# Altium footprint library MC.PcbLib: 32 footprints (part 2 of 2)
Each footprint in its own frame and in the unit in brackets; x right, y up, seen from the top. Pads: shape width x height; smd on the part's side, far side on the other; paste and mask are expansions set on the pad; w line width, h text height; cw(c..) or ccw(c..) is an arc to the next point about the centre after c.
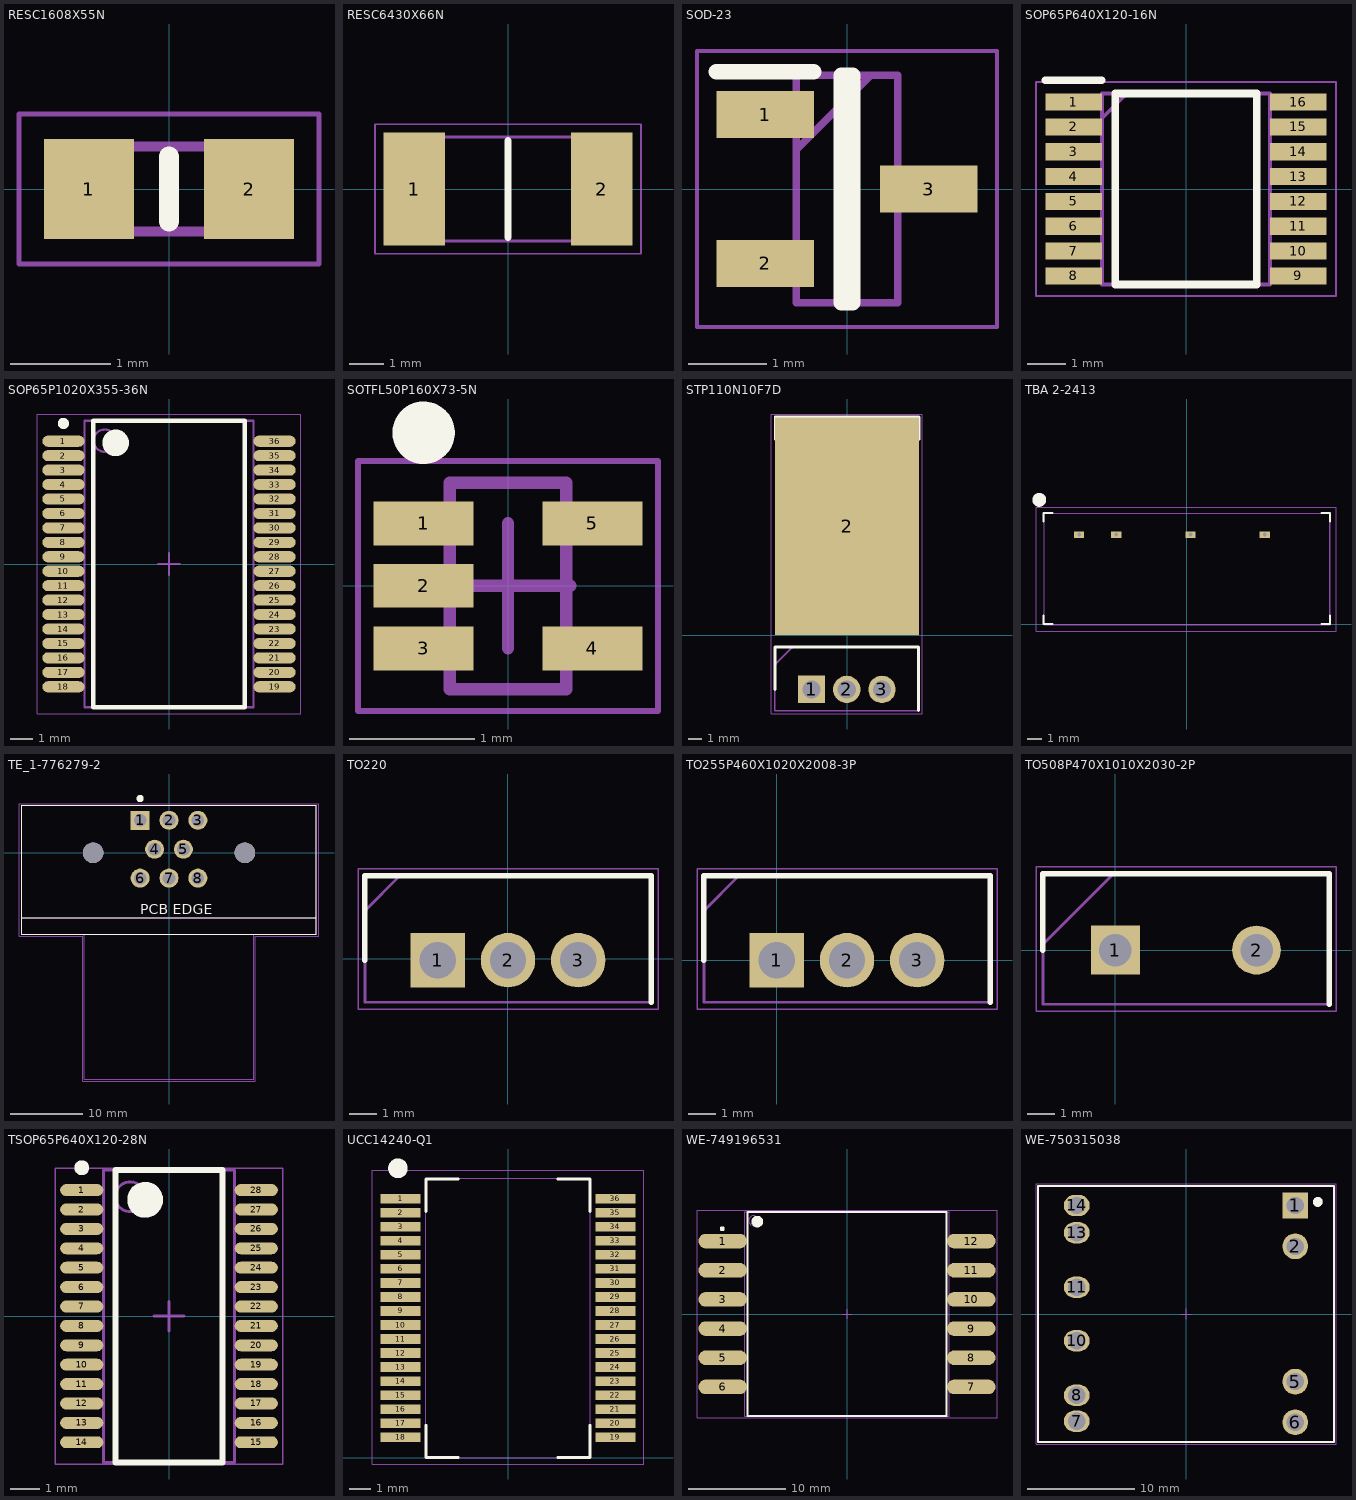
[diagram p1: the footprints below, top view; thin cyan lines are the x and y axes]

## RESC1608X55N [mm]
pads (2):
  rect 0.9x1 smd: 1(-0.8,0) 2(0.8,0)
Top Overlay:
  lines w0.2: 0,-0.325 0,0.325
Mechanical 13:
  lines w0.1: -0.8,-0.425 -0.8,0.425 0.8,0.425 0.8,-0.425 -0.8,-0.425
Mechanical 15:
  lines w0.05: -1.5,-0.75 -1.5,0.75 1.5,0.75 1.5,-0.75 -1.5,-0.75
3D body "ERJ-3GEYJ103V.stp": height 0.55, standoff 0, extent -0.8,-0.425 0.8,0.425

## RESC6430X66N [mm]
pads (2):
  rect 1.8x3.3 smd: 1(-2.75,0) 2(2.75,0)
Top Overlay:
  lines w0.2: 0,-1.425 0,1.425
Mechanical 13:
  lines w0.1: -3.175,-1.525 -3.175,1.525 3.175,1.525 3.175,-1.525 -3.175,-1.525
Mechanical 15:
  lines w0.05: -3.9,-1.9 -3.9,1.9 3.9,1.9 3.9,-1.9 -3.9,-1.9
3D body "PCS2512FR0050ET.stp": height 0.66, standoff 0, extent -3.175,-1.525 3.175,1.525

## SOD-23 [mm]
pads (3):
  rect 1.25x0.6 smd: 1(-1.05,0.955) 2(-1.05,-0.955) 3(1.05,0)
Top Overlay:
  lines w0.2: -1.675,1.505 -0.425,1.505 ; -0.075,-1.46 0.075,-1.46 0.075,1.46 -0.075,1.46 -0.075,-1.46
Mechanical 13:
  lines w0.1: -0.65,0.505 0.305,1.46 ; -0.65,-1.46 0.65,-1.46 0.65,1.46 -0.65,1.46 -0.65,-1.46
Mechanical 15:
  lines w0.05: -1.925,-1.77 1.925,-1.77 1.925,1.77 -1.925,1.77 -1.925,-1.77
3D body "MMBZ5242BLT3G.stp": height 1.11, standoff 0, extent -1.185,-1.46 1.185,1.46

## SOP65P640X120-16N [mm]
pads (16):
  rect 1.475x0.45 smd mask+0.07: 1(-2.938,2.275) 2(-2.938,1.625) 3(-2.938,0.975) 4(-2.938,0.325) 5(-2.938,-0.325) 6(-2.938,-0.975) 7(-2.938,-1.625) 8(-2.938,-2.275) 9(2.938,-2.275) 10(2.938,-1.625) 11(2.938,-0.975) 12(2.938,-0.325) 13(2.938,0.325) 14(2.938,0.975) 15(2.938,1.625) 16(2.938,2.275)
Top Overlay:
  lines w0.2: -3.675,2.85 -2.2,2.85 ; -1.85,-2.5 1.85,-2.5 1.85,2.5 -1.85,2.5 -1.85,-2.5
Mechanical 13:
  lines w0.1: -2.2,1.85 -1.55,2.5 ; -2.2,-2.5 2.2,-2.5 2.2,2.5 -2.2,2.5 -2.2,-2.5
Mechanical 15:
  lines w0.05: -3.925,-2.8 3.925,-2.8 3.925,2.8 -3.925,2.8 -3.925,-2.8
3D body "TMUX1208PWR.stp": height 1.2, standoff 0, extent -3.2,-2.5 3.2,2.5

## SOP65P1020X355-36N [mm] "SOP, 36-Leads, Body 12.83x7.50mm, Pitch 0.65mm, IPC Medium Density"
height 3.55
pads (36):
  oval 1.9x0.5 smd: 1(-4.75,5.525) 2(-4.75,4.875) 3(-4.75,4.225) 4(-4.75,3.575) 5(-4.75,2.925) 6(-4.75,2.275) 7(-4.75,1.625) 8(-4.75,0.975) 9(-4.75,0.325) 10(-4.75,-0.325) 11(-4.75,-0.975) 12(-4.75,-1.625) 13(-4.75,-2.275) 14(-4.75,-2.925) 15(-4.75,-3.575) 16(-4.75,-4.225) 17(-4.75,-4.875) 18(-4.75,-5.525) 19(4.75,-5.525) 20(4.75,-4.875) 21(4.75,-4.225) 22(4.75,-3.575) 23(4.75,-2.925) 24(4.75,-2.275) 25(4.75,-1.625) 26(4.75,-0.975) 27(4.75,-0.325) 28(4.75,0.325) 29(4.75,0.975) 30(4.75,1.625) 31(4.75,2.275) 32(4.75,2.925) 33(4.75,3.575) 34(4.75,4.225) 35(4.75,4.875) 36(4.75,5.525)
Top Overlay:
  circle w0.6: c-2.4,5.45 r0.3
  circle w0.25: c-4.75,6.325 r0.125
  lines w0.2: -3.4,-6.45 3.4,-6.45 3.4,6.45 -3.4,6.45 -3.4,-6.45
Mechanical 13:
  circle w0.1: c-2.9,5.55 r0.5
  lines w0.1: -3.8,-6.45 3.8,-6.45 3.8,6.45 -3.8,6.45 -3.8,-6.45
Mechanical 15:
  lines w0.05: -5.925,-6.75 5.925,-6.75 5.925,6.75 -5.925,6.75 -5.925,-6.75
  lines w0.1: -0.5,0 0.5,0 ; 0,-0.5 0,0.5
3D body "SOP65P1020X355-36N.step": height 3.55, standoff 0, extent -5.075,-6.45 5.075,6.45

## SOTFL50P160X73-5N [mm] "SOTFL, 5-Leads, Body 1.60x1.60mm, Pitch 0.50mm, IPC Medium Density"
height 0.73
pads (5):
  rect 0.8x0.35 smd: 1(-0.675,0.5) 2(-0.675,0) 3(-0.675,-0.5) 4(0.675,-0.5) 5(0.675,0.5)
Top Overlay:
  circle w0.25: c-0.675,1.225 r0.125
Mechanical 13:
  lines w0.1: -0.465,-0.825 -0.465,0.825 0.465,0.825 0.465,-0.825 -0.465,-0.825
Mechanical 15:
  lines w0.05: -1.2,-1 -1.2,1 1.2,1 1.2,-1 -1.2,-1
  lines w0.1: -0.5,0 0.5,0 ; 0,-0.5 0,0.5
3D body: height 0.73, standoff 0, extent -0.465,-0.825 0.465,0.825

## STP110N10F7D [mm] "90 deg mosfet"
pads (4):
  rect 1.98x1.98 hole 1.32: 1(-2.568,-3.93)
  round 1.98 hole 1.32: 2(-0.018,-3.93) 3(2.532,-3.93)
  rect 10.4x15.75 smd: 2(0,7.875)
Top Overlay:
  lines w0.2: -5.218,-3.93 -5.218,-0.86 5.182,-0.86 5.182,-5.46 ; -5.2,14.2 -5.2,15.8 5.2,15.8 ; 5.206,14.17 5.206,15.77
Mechanical 13:
  lines w0.1: -5.218,-2.135 -3.943,-0.86 ; -5.218,-5.46 5.182,-5.46 5.182,-0.86 -5.218,-0.86 -5.218,-5.46
Mechanical 15:
  lines w0.05: -5.468,-5.71 -5.468,16 5.432,16 5.432,-5.71 -5.468,-5.71
3D body "STP110N10F7.stp": height 19.22, standoff -18.2, extent -5.118,-5.46 5.082,-0.86

## TBA 2-2413 [mm] "DC DC CONVERTER 15V 2W"
pads (4):
  rect 0.7x0.45 hole 0.25 square: 1(-7.375,6.125) 2(-4.835,6.125) 4(0.246,6.125) 6(5.325,6.125)
Top Overlay:
  circle w0.5: c-10.1,8.5 r0.224
  lines w0.127: -9.8,0.6 -9.8,0 -9.2,0 ; -9.8,7 -9.8,7.6 -9.2,7.6 ; 9.2,0 9.8,0 9.8,0.6 ; 9.2,7.6 9.8,7.6 9.8,7
Mechanical 1:
  lines w0.051: -9.775,0 9.775,0 9.775,7.6 -9.775,7.6 -9.775,0 ; -9.755,-0.031 9.795,-0.031 9.795,7.569 -9.755,7.569 -9.755,-0.031
Mechanical 15:
  lines w0.051: -10.3,-0.5 -10.3,8 -10,8 10.2,8 10.2,-0.5 -10.3,-0.5
3D body "TBA 2-2413.STEP": height 10.24, standoff -3.01, extent -9.75,0 9.75,7.6

## TE_1-776279-2 [mm]
pads (10):
  rect 2.625x2.625 hole 1.75: 1(-4,4.5)
  round 2.625 hole 1.75: 2(0,4.5) 3(4,4.5) 4(-2,0.5) 5(2,0.5) 6(-4,-3.5) 7(0,-3.5) 8(4,-3.5)
  round 2.85 hole 2.85 unplated: ""(-10.5,0) ""(10.5,0)
Top Overlay:
  circle w0.5: c-4,7.5 r0.25
  lines w0.127: -20.4,-9 20.4,-9 ; -20.4,-9 -20.4,6.55 20.4,6.55 20.4,-9 ; -20.4,-9 -20.4,-11.3 11.7,-11.3 20.4,-11.3 20.4,-9
  text "PCB EDGE" at -4.006,-8.512 h1.42
Mechanical 13:
  lines w0.127: -20.4,-9 20.4,-9 ; -20.4,-9 -20.4,6.55 20.4,6.55 20.4,-9 ; -20.4,-9 -20.4,-11.3 -11.7,-11.3 ; -11.7,-11.3 -11.7,-31.35 11.7,-31.35 11.7,-11.3 ; -11.7,-11.3 11.7,-11.3 ; 11.7,-11.3 20.4,-11.3 20.4,-9
  text "PCB EDGE" at -4.006,-8.513 h1.42
Mechanical 15:
  lines w0.05: -20.75,-11.55 -11.95,-11.55 -11.95,-31.6 11.95,-31.6 11.95,-11.55 20.75,-11.55 20.75,6.8 -20.75,6.8 -20.75,-11.55
3D body "1-776279-2--3DModel-STEP-1.STEP": height 28.05, standoff -4.05, extent -20.4,-31.196 20.4,6.604

## TO220 [mm] "N Channel MOSFET"
pads (3):
  rect 1.98x1.98 hole 1.32: 1(-2.548,-0.051)
  round 1.98 hole 1.32: 2(0.002,-0.051) 3(2.552,-0.051)
Top Overlay:
  lines w0.2: -5.198,-0.051 -5.198,3.019 5.202,3.019 5.202,-1.581
Mechanical 13:
  lines w0.1: -5.198,1.744 -3.923,3.019 ; -5.198,-1.581 -5.198,3.019 5.202,3.019 5.202,-1.581 -5.198,-1.581
Mechanical 15:
  lines w0.05: -5.448,-1.831 -5.448,3.269 5.452,3.269 5.452,-1.831 -5.448,-1.831
3D body "STP110N10F7.stp": height 19.22, standoff -18.2, extent -5.098,-1.581 5.102,3.019

## TO255P460X1020X2008-3P [mm]
pads (3):
  rect 1.98x1.98 hole 1.32: 1(0,0)
  round 1.98 hole 1.32: 2(2.55,0) 3(5.1,0)
Top Overlay:
  lines w0.2: -2.65,0 -2.65,3.07 7.75,3.07 7.75,-1.53
Mechanical 13:
  lines w0.1: -2.65,1.795 -1.375,3.07 ; -2.65,-1.53 7.75,-1.53 7.75,3.07 -2.65,3.07 -2.65,-1.53
Mechanical 15:
  lines w0.05: -2.9,-1.78 8,-1.78 8,3.32 -2.9,3.32 -2.9,-1.78
3D body "STP110N10F7.stp": height 19.21, standoff -18.2, extent -2.55,-1.53 7.65,3.07

## TO508P470X1010X2030-2P [mm]
pads (2):
  rect 1.755x1.755 hole 1.17: 1(0,0)
  round 1.755 hole 1.17: 2(5.08,0)
Top Overlay:
  lines w0.2: -2.61,0 -2.61,2.75 7.69,2.75 7.69,-1.95
Mechanical 13:
  lines w0.1: -2.61,0.21 -0.07,2.75 ; -2.61,-1.95 -2.61,2.75 7.69,2.75 7.69,-1.95 -2.61,-1.95
Mechanical 15:
  lines w0.05: -2.86,-2.2 -2.86,3 7.94,3 7.94,-2.2 -2.86,-2.2
3D body "PF2203-0R2F1.stp": height 19, standoff -18, extent -2.51,-1.95 7.59,2.75

## TSOP65P640X120-28N [mm] "TSOP, 28-Leads, Body 9.70x4.40mm, Pitch 0.65mm, IPC Medium Density"
height 1.2
pads (28):
  oval 1.45x0.4 smd: 1(-2.925,4.225) 2(-2.925,3.575) 3(-2.925,2.925) 4(-2.925,2.275) 5(-2.925,1.625) 6(-2.925,0.975) 7(-2.925,0.325) 8(-2.925,-0.325) 9(-2.925,-0.975) 10(-2.925,-1.625) 11(-2.925,-2.275) 12(-2.925,-2.925) 13(-2.925,-3.575) 14(-2.925,-4.225) 15(2.925,-4.225) 16(2.925,-3.575) 17(2.925,-2.925) 18(2.925,-2.275) 19(2.925,-1.625) 20(2.925,-0.975) 21(2.925,-0.325) 22(2.925,0.325) 23(2.925,0.975) 24(2.925,1.625) 25(2.925,2.275) 26(2.925,2.925) 27(2.925,3.575) 28(2.925,4.225)
Top Overlay:
  circle w0.25: c-2.925,4.975 r0.125
  circle w0.6: c-0.8,3.9 r0.3
  lines w0.2: -1.8,-4.9 -1.8,4.9 1.8,4.9 1.8,-4.9 -1.8,-4.9
Mechanical 13:
  circle w0.1: c-1.3,4 r0.5
  lines w0.1: -2.2,-4.9 -2.2,4.9 2.2,4.9 2.2,-4.9 -2.2,-4.9
Mechanical 15:
  lines w0.05: -3.81,-4.953 -3.81,4.953 3.81,4.953 3.81,-4.953 -3.81,-4.953
  lines w0.1: -0.5,0 0.5,0 ; 0,-0.5 0,0.5
3D body: height 1.2, standoff 0.1, extent -2.2,-4.9 2.2,4.9

## UCC14240-Q1 [mm] "Isolated DC/DC Module"
pads (36):
  rect 1.85x0.45 smd: 1(-4.975,11.99) 2(-4.975,11.34) 3(-4.975,10.69) 4(-4.975,10.04) 5(-4.975,9.39) 6(-4.975,8.74) 7(-4.975,8.09) 8(-4.975,7.44) 9(-4.975,6.79) 10(-4.975,6.14) 11(-4.975,5.49) 12(-4.975,4.84) 13(-4.975,4.19) 14(-4.975,3.54) 15(-4.975,2.89) 16(-4.975,2.24) 17(-4.975,1.59) 18(-4.975,0.94) 19(4.975,0.94) 20(4.975,1.59) 21(4.975,2.24) 22(4.975,2.89) 23(4.975,3.54) 24(4.975,4.19) 25(4.975,4.84) 26(4.975,5.49) 27(4.975,6.14) 28(4.975,6.79) 29(4.975,7.44) 30(4.975,8.09) 31(4.975,8.74) 32(4.975,9.39) 33(4.975,10.04) 34(4.975,10.69) 35(4.975,11.34) 36(4.975,11.99)
Top Overlay:
  circle w0.508: c-5.1,13.4 r0.2
  lines w0.127: -3.8,1.5 -3.8,0 -2.3,0 ; -3.8,11.4 -3.8,12.9 -2.3,12.9 ; 2.3,0 3.8,0 3.8,1.5 ; 2.3,12.9 3.8,12.9 3.8,11.4
Mechanical 13:
  lines w0.051: -3.8,0 3.8,0 3.8,12.93 -3.8,12.93 -3.8,0
Mechanical 15:
  lines w0.051: -6.3,-0.3 6.3,-0.3 6.3,13.3 -6.3,13.3 -6.3,-0.3

## WE-749196531 [mm]
height 10.8
pads (12):
  oval 5x1.5 smd: 1(-12.775,7.5) 2(-12.775,4.5) 3(-12.775,1.5) 4(-12.775,-1.5) 5(-12.775,-4.5) 6(-12.775,-7.5) 7(12.775,-7.5) 8(12.775,-4.5) 9(12.775,-1.5) 10(12.775,1.5) 11(12.775,4.5) 12(12.775,7.5)
Top Overlay:
  circle w0.6: c-9.225,9.5 r0.3
  circle w0.25: c-12.827,8.763 r0.125
  lines w0.2: -10.225,-10.5 10.225,-10.5 10.225,10.5 -10.225,10.5 -10.225,-10.5
Mechanical 13:
  circle w0.1: c-9.6,9.6 r0.5
  lines w0.1: -10.5,-10.5 10.5,-10.5 10.5,10.5 -10.5,10.5 -10.5,-10.5
Mechanical 15:
  lines w0.05: -15.425,-10.668 15.425,-10.668 15.425,10.668 -15.425,10.668 -15.425,-10.668
  lines w0.1: -0.5,0 0.5,0 ; 0,-0.5 0,0.5
3D body "749196531_Download_STP_749196531_rev1.stp": height 10.75, standoff -0.05, extent -14.75,-10.5 14.75,10.5

## WE-750315038 [mm]
height 24.14
pads (10):
  rect 2.4x2.4 hole 1.6: 1(10.19,10.12)
  round 2.4 hole 1.6: 2(10.19,6.31) 5(10.19,-6.31) 6(10.19,-10.1)
  oval 2.4x2 hole 1.6: 7(-10.19,-10) 8(-10.19,-7.58) 10(-10.19,-2.5) 11(-10.19,2.5) 13(-10.19,7.58) 14(-10.19,10.12)
Top Overlay:
  circle w0.5: c12.29,10.45 r0.2
  lines w0.2: -13.79,-11.95 -13.79,11.95 13.79,11.95 13.79,-11.95 -13.79,-11.95
Mechanical 13:
  circle w0.5: c12.29,10.45 r0.2
  lines w0.1: -13.79,-11.95 13.79,-11.95 13.79,11.95 -13.79,11.95 -13.79,-11.95
Mechanical 15:
  lines w0.05: -0.5,0 0.5,0 ; 0,-0.5 0,0.5 ; -13.99,-12.15 -13.99,12.15 13.99,12.15 13.99,-12.15 -13.99,-12.15
3D body "PQ2020STP.STEP": height 22.1, standoff -5.92, extent -11.58,-11.575 11.58,11.575